# EAGLE library part 74*245 (library Elecrow_IC)
Octal Bus Transceiver With 3 State Outputs (NON INVERTED) http://www.datasheetcatalog.org/datasheet/stmicroelectronics/4823.pdf
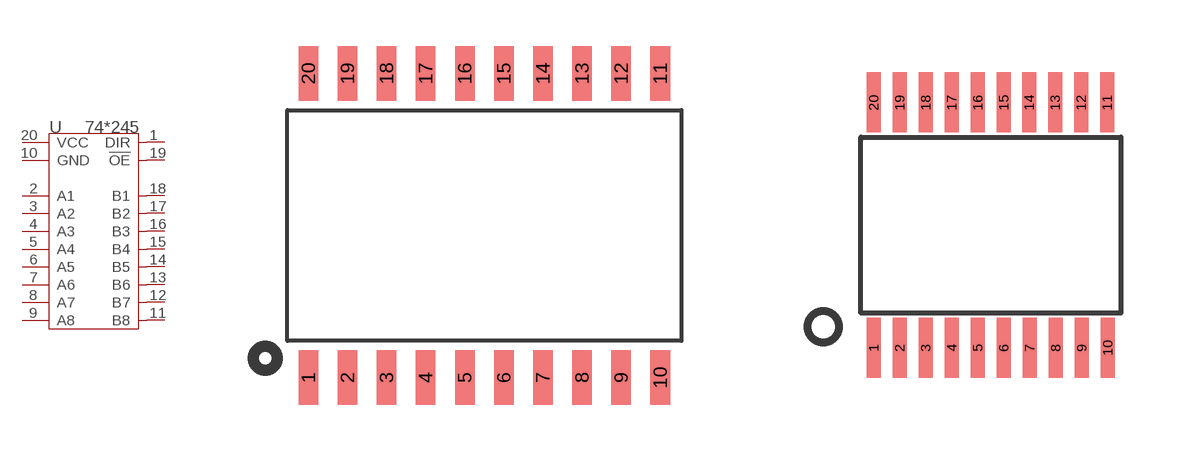
[diagram p49: symbol with the pads of SOP20-10.65; footprints SOP20-10.65, TSSOP20]

Designator prefix U

## 74AC245SJ, 74ACT245SJ  [SOP20-10.65]
1  DIR  in
2  A1
3  A2
4  A3
5  A4
6  A5
7  A6
8  A7
9  A8
10  GND  sup
11  B8
12  B7
13  B6
14  B5
15  B4
16  B3
17  B2
18  B1
19  !OE
20  VCC  sup

## 74AC245MTC, 74ACT245MTC  [TSSOP20]
Pads as for SOP20-10.65

## Footprint SOP20-10.65 (pad centres in mm)
smd 0.635 x 1.77: 1 -5.715,-4.94; 2 -4.445,-4.94; 3 -3.175,-4.94; 4 -1.905,-4.94; 5 -0.635,-4.94; 6 0.635,-4.94; 7 1.905,-4.94; 8 3.175,-4.94; 9 4.445,-4.94; 10 5.715,-4.94; 11 5.715,4.94; 12 4.445,4.94; 13 3.175,4.94; 14 1.905,4.94; 15 0.635,4.94; 16 -0.635,4.94; 17 -1.905,4.94; 18 -3.175,4.94; 19 -4.445,4.94; 20 -5.715,4.94

## Footprint TSSOP20 (pad centres in mm)
smd 0.35 x 1.5: 1 -2.925,-3.065; 2 -2.275,-3.065; 3 -1.625,-3.065; 4 -0.975,-3.065; 5 -0.325,-3.065; 6 0.325,-3.065; 7 0.975,-3.065; 8 1.625,-3.065; 9 2.275,-3.065; 10 2.925,-3.065; 11 2.91,3.065; 12 2.26,3.065; 13 1.61,3.065; 14 0.96,3.065; 15 0.325,3.065; 16 -0.325,3.065; 17 -0.975,3.065; 18 -1.625,3.065; 19 -2.275,3.065; 20 -2.925,3.065